# Altium footprint library microMatch4.PcbLib: 1 footprints
Each footprint in its own frame and in the unit in brackets; x right, y up, seen from the top. Pads: shape width x height; smd on the part's side, far side on the other; paste and mask are expansions set on the pad; w line width, h text height; cw(c..) or ccw(c..) is an arc to the next point about the centre after c.
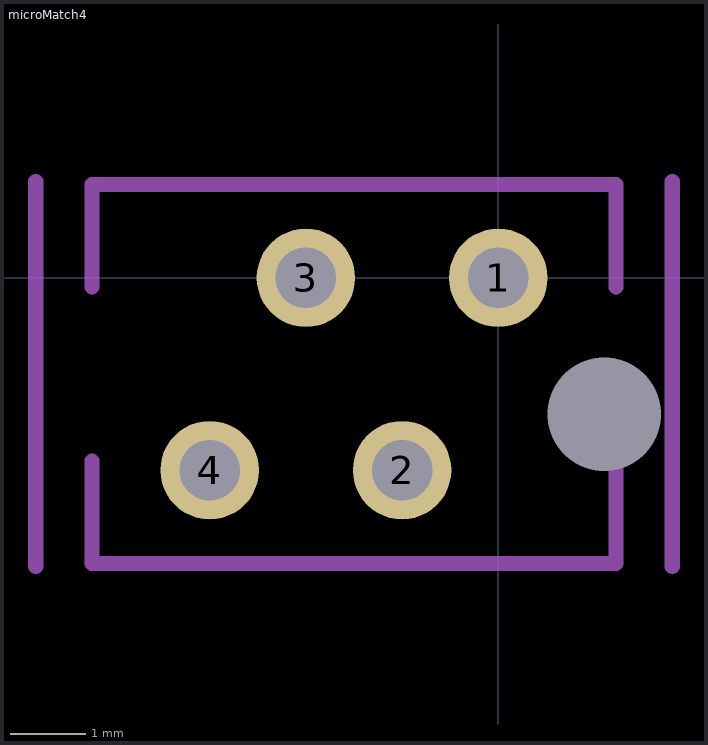
[diagram p0: the footprint, top view; thin cyan lines are the x and y axes]

## microMatch4 [mm]
pads (5):
  round 1.3 hole 0.8: 1(0,0) 2(-1.27,-2.54) 3(-2.54,0) 4(-3.81,-2.54)
  round 0 hole 1.5 unplated: drill(1.4,-1.8)
Mechanical 13:
  lines w0.2: -6.105,-3.81 -6.105,1.27 ; -5.365,-2.42 -5.365,-3.77 1.555,-3.77 1.555,-2.42 ; -5.365,-0.12 -5.365,1.23 1.555,1.23 1.555,-0.12 ; 2.295,-3.81 2.295,1.27
3D body "micromatch_fob_4.STEP": height 4, standoff -3, extent -5.41,-3.77 1.6,1.23